# Altium schematic symbol library SMCJ12A.SchLib: 1 symbol
Pins are listed as number, name and electrical type; pins without a type are passive.

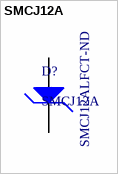
[diagram p0: symbol SMCJ12A]

## SMCJ12A
designator D?  Supplier Part Number 1: SMCJ12ALFCT-ND
19.9V Clamp 75.4A Ipp Tvs Diode Surface Mount DO-214AB (SMCJ); Manufacturer: Littelfuse; Description: TVS DIODE 12VWM 19.9VC SMC; Direction: Unidirectional; Reverse Breakdown Voltage: 13.3V; Operating Supply Voltage: 12V; Number of Unidirectional Channels: 1; Peak Pulse Power: 1.5kW; Power Line Protection: No; Max Breakdown Voltage: 14.7V; Test Current: 1mA; Max Power Dissipation: 6.5W; Leakage Current: 1uA; Forward Voltage: 5V; Capacitance: 6.1nF; Supplier 1: Digi-Key; Manufacturer Part Number: SMCJ12A; Stock 1: 11521; Pricing 1: 1=0.69, 10=0.577, 25=0.5052, 100=0.4329, 250=0.3752, 500=0.31746, 1000=0.24531 (USD); Mount: Surface Mount; Number of Pins: 2; Min Operating Temperature: -65°C; Max Operating Temperature: 150°C; Packaging: Tape and Reel; Package Quantity: 3000; Max Surge Current: 75.4A; Reverse Standoff Voltage: 12V; Min Breakdown Voltage: 13.3V; Clamping Voltage: 19.9V; Breakdown Voltage: 13.3V; Number of Channels: 1; Polarity: Unidirectional; Termination: SMD/SMT; Power Dissipation: 1.5kW; Number of Elements: 1; Peak Pulse Current: 75.4A; Voltage Rating (DC): 12V; Max Output Current: 75.4A; Composition: Zener; Length: 8.13mm; Height: 2.62mm; Width: 6.22mm; Radiation Hardening: No; REACH SVHC: No SVHC; Lead Free: Lead Free; ComponentLink1URL: https://www.distrelec.biz/Web/Downloads/g_/ds/smcj_eng_ds.pdf?mime=application%2Fpdf&src-supplier=Distrelec; ComponentLink1Description: https://www.distrelec.biz/Web/Downloads/g_/ds/smcj_eng_ds.pdf?mime=application%2Fpdf&src-supplier=Distrelec; ComponentLink2URL: https://www.verical.com/server-webapp/html/getDatasheet?partID=152390&src-supplier=Verical; ComponentLink2Description: https://www.verical.com/server-webapp/html/getDatasheet?partID=152390&src-supplier=Verical; ComponentLink3URL: http://www.littelfuse.com/products/tvs-diodes/surface-mount/~/media/electronics/datasheets/tvs_diodes/littelfuse_tvs_diode_smcj_datasheet.pdf.pdf?src-supplier=Digi-Key; ComponentLink3Description: http://www.littelfuse.com/products/tvs-diodes/surface-mount/~/media/electronics/datasheets/tvs_diodes/littelfuse_tvs_diode_smcj_datasheet.pdf.pdf?src-supplier=Digi-Key; ComponentLink4URL: http://www.littelfuse.com/data/en/Data_Sheets/Littelfuse_TVS_Diode_SMCJ.pdf?src-supplier=Element14; ComponentLink4Description: http://www.littelfuse.com/data/en/Data_Sheets/Littelfuse_TVS_Diode_SMCJ.pdf?src-supplier=Element14; ComponentLink5URL: http://www.mouser.com/ds/2/240/Littelfuse_TVS_Diode_SMCJ-62645.pdf?src-supplier=Mouser; ComponentLink5Description: http://www.mouser.com/ds/2/240/Littelfuse_TVS_Diode_SMCJ-62645.pdf?src-supplier=Mouser
footprint SMC-J (SMC Surface Mount Diode)
pins: 1, 2